# Altium schematic symbol library th.Schlib: 1 symbol
Pins are listed as number, name and electrical type; pins without a type are passive.

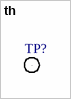
[diagram p0: symbol th]

## th
designator TP?  (value not drawn)
pins: 1